# Altium integrated library Outlines-Expansion-Addons.IntLib: 4 symbols
Pins are listed as number, name and electrical type; pins without a type are passive.

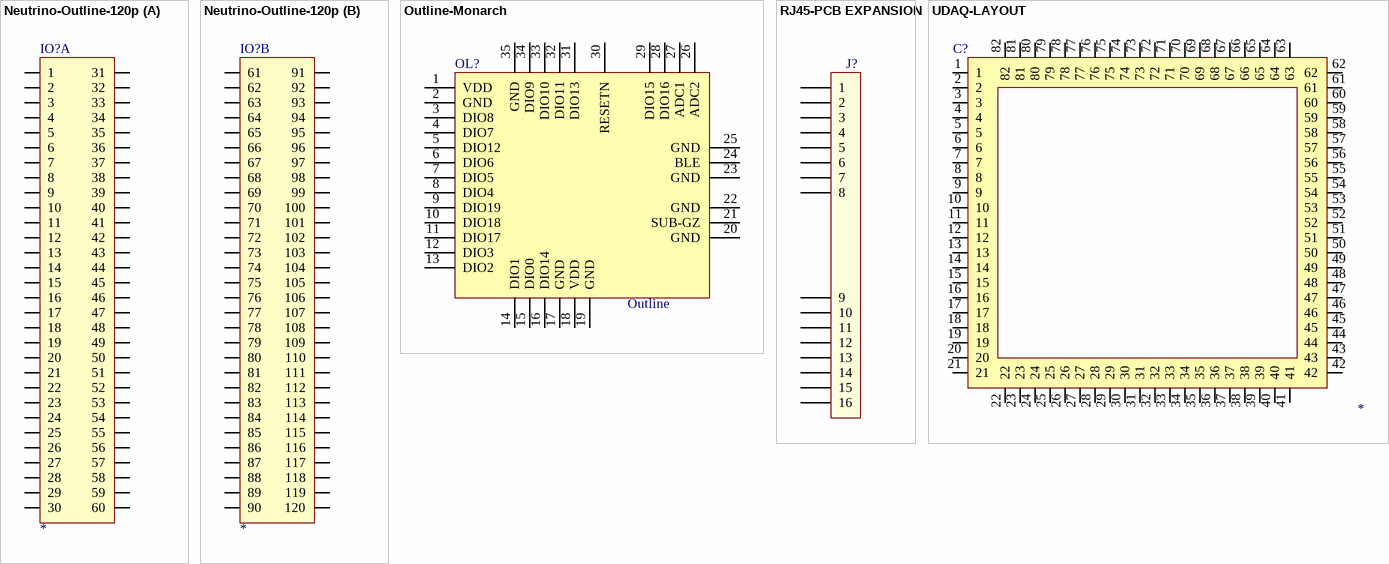
[diagram p0: symbols Neutrino-Outline-120p to UDAQ-LAYOUT]

## Neutrino-Outline-120p
designator IO?  (no BOM)
Neutrino Outline I/O; Value: *
footprint NEUTRINO_OUTLINE
part A pins: 1, 2, 3, 4, 5, 6, 7, 8, 9, 10, 11, 12, 13, 14, 15, 16, 17, 18, 19, 20, 21, 22, 23, 24, 25, 26, 27, 28, 29, 30, 31, 32, 33, 34, 35, 36, 37, 38, 39, 40, 41, 42, 43, 44, 45, 46, 47, 48, 49, 50, 51, 52, 53, 54, 55, 56, 57, 58, 59, 60
part B pins: 61, 62, 63, 64, 65, 66, 67, 68, 69, 70, 71, 72, 73, 74, 75, 76, 77, 78, 79, 80, 81, 82, 83, 84, 85, 86, 87, 88, 89, 90, 91, 92, 93, 94, 95, 96, 97, 98, 99, 100, 101, 102, 103, 104, 105, 106, 107, 108, 109, 110, 111, 112, 113, 114, 115, 116, 117, 118, 119, 120

## Outline-Monarch
designator OL?, comment Outline  (no BOM)
MONARCH REF OUTLINE; Value: Outline
footprint TP-MONARCH
pins: 1 VDD, 2 GND, 3 DIO8, 4 DIO7, 5 DIO12, 6 DIO6, 7 DIO5, 8 DIO4, 9 DIO19, 10 DIO18, 11 DIO17, 12 DIO3, 13 DIO2, 14 DIO1, 15 DIO0, 16 DIO14, 17 GND, 18 VDD, 19 GND, 20 GND, 21 SUB-GZ, 22 GND, 23 GND, 24 BLE, 25 GND, 26 ADC2, 27 ADC1, 28 DIO16, 29 DIO15, 30 RESETN, 31 DIO13, 32 DIO11, 33 DIO10, 34 DIO9, 35 GND

## RJ45-PCB EXPANSION
designator J?
footprint RJ45-PCB EXTENSION
pins: 1, 2, 3, 4, 5, 6, 7, 8, 9, 10, 11, 12, 13, 14, 15, 16

## UDAQ-LAYOUT
designator C?
Populated: No; Value: *; ROHS: Yes
footprint uDAQ-Castellation
pins: 1, 2, 3, 4, 5, 6, 7, 8, 9, 10, 11, 12, 13, 14, 15, 16, 17, 18, 19, 20, 21, 22, 23, 24, 25, 26, 27, 28, 29, 30, 31, 32, 33, 34, 35, 36, 37, 38, 39, 40, 41, 42, 43, 44, 45, 46, 47, 48, 49, 50, 51, 52, 53, 54, 55, 56, 57, 58, 59, 60, 61, 62, 63, 64, 65, 66, 67, 68, 69, 70, 71, 72, 73, 74, 75, 76, 77, 78, 79, 80, 81, 82